# Altium schematic symbol library MAX7500MSA+T.SchLib: 1 symbol
Pins are listed as number, name and electrical type; pins without a type are passive.

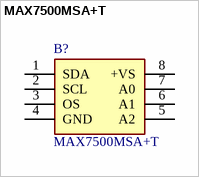
[diagram p0: symbol MAX7500MSA+T]

## MAX7500MSA+T
designator B?
MAXIM INTEGRATED PRODUCTS - MAX7500MSA+T - TEMPERATURE SENSOR, 2DEG C, NSOIC-8; Manufacturer_Name: Analog Devices; Geometry.Height: 1.75mm; Mouser Part Number: 700-MAX7500MSAT; Mouser Price/Stock: https://www.mouser.co.uk/ProductDetail/Maxim-Integrated/MAX7500MSA%2bT?qs=1THa7WoU59F7t00CHZBrcA%3D%3D; Manufacturer_Part_Number: MAX7500MSA+T; Datasheet Link: https://componentsearchengine.com/Datasheets/2/MAX7500MSA+T.pdf
footprint SOIC127P600X175-8N
pins: 1 SDA, 2 SCL, 3 OS, 4 GND, 5 A2, 6 A1, 7 A0, 8 +VS